# Altium footprint library SamacSys.PcbLib: 20 footprints (part 2 of 2)
Each footprint in its own frame and in the unit in brackets; x right, y up, seen from the top. Pads: shape width x height; smd on the part's side, far side on the other; paste and mask are expansions set on the pad; w line width, h text height; cw(c..) or ccw(c..) is an arc to the next point about the centre after c.
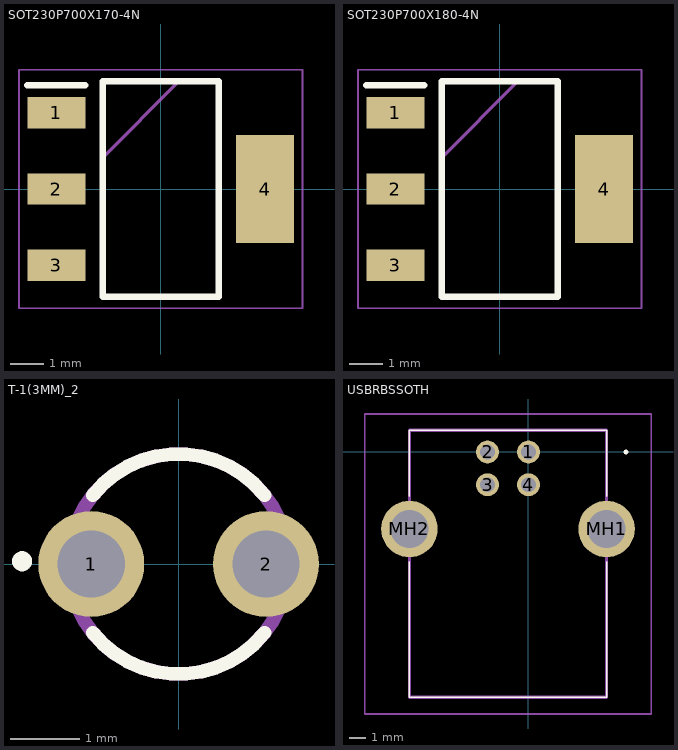
[diagram p1: the footprints below, top view; thin cyan lines are the x and y axes]

## SOT230P700X170-4N [mm]
pads (4):
  rect 1.75x0.95 smd: 1(-3.15,2.3) 2(-3.15,0) 3(-3.15,-2.3)
  rect 1.75x3.25 smd: 4(3.15,0)
Top Overlay:
  lines w0.2: -4.025,3.125 -2.275,3.125 ; -1.75,-3.25 -1.75,3.25 1.75,3.25 1.75,-3.25 -1.75,-3.25
Mechanical 13:
  lines w0.1: -1.75,0.95 0.55,3.25 ; -1.75,-3.25 -1.75,3.25 1.75,3.25 1.75,-3.25 -1.75,-3.25
Mechanical 15:
  lines w0.05: -4.275,-3.6 -4.275,3.6 4.275,3.6 4.275,-3.6 -4.275,-3.6
3D body "MIC5209-3.3YS-TR.stp": height 1.7, standoff 0, extent -3.5,-3.25 3.5,3.25

## SOT230P700X180-4N [mm]
pads (4):
  rect 1.75x0.95 smd: 1(-3.15,2.3) 2(-3.15,0) 3(-3.15,-2.3)
  rect 1.75x3.25 smd: 4(3.15,0)
Top Overlay:
  lines w0.2: -4.025,3.125 -2.275,3.125 ; -1.75,-3.25 -1.75,3.25 1.75,3.25 1.75,-3.25 -1.75,-3.25
Mechanical 13:
  lines w0.1: -1.75,0.95 0.55,3.25 ; -1.75,-3.25 -1.75,3.25 1.75,3.25 1.75,-3.25 -1.75,-3.25
Mechanical 15:
  lines w0.05: -4.275,-3.6 -4.275,3.6 4.275,3.6 4.275,-3.6 -4.275,-3.6
3D body "MIC5209-5.0YS.stp": height 1.8, standoff 0, extent -3.5,-3.25 3.5,3.25

## T-1(3MM)_2 [mm]
pads (2):
  round 1.54 hole 0.98: 1(-1.27,0) 2(1.27,0)
Top Overlay:
  circle w0.2: c-2.274,0.04 r0.046
  lines w0.2: -1.249,-1 ccw(c0,0) 1.249,-1 ; -1.249,1 cw(c0,0) 1.249,1
Mechanical 13:
  circle w0.2: c0,0 r1.6

## USBRBSSOTH [mm]
pads (6):
  round 1.4 hole 0.9: 1(0,0) 2(-2.5,0) 3(-2.5,-2) 4(0,-2)
  round 3.45 hole 2.3: MH1(4.77,-4.7) MH2(-7.27,-4.7)
Top Overlay:
  lines w0.1: -7.27,-6.7 -7.27,-14.98 4.77,-14.98 4.77,-6.7 ; -7.27,-2.7 -7.27,1.3 -7.27,1.32 4.77,1.32 4.77,-2.7
  lines w0.2: 5.9,0 ccw(c5.95,0) 6,0 ; 5.9,0 cw(c5.95,0) 6,0 ; 5.9,0 ccw(c5.95,0) 6,0
Mechanical 13:
  lines w0.2: -7.27,-14.98 -7.27,1.32 4.77,1.32 4.77,-14.98 -7.27,-14.98
Mechanical 15:
  lines w0.1: -9.995,-16 -9.995,2.32 7.495,2.32 7.495,-16 -9.995,-16
3D body "USBR-B-S-S-O-TH.stp": height 11.1, standoff -5, extent -8.312,-14.98 5.82,1.32